# Altium schematic symbol library QFN40G.SchLib: 1 symbol
Pins are listed as number, name and electrical type; pins without a type are passive.

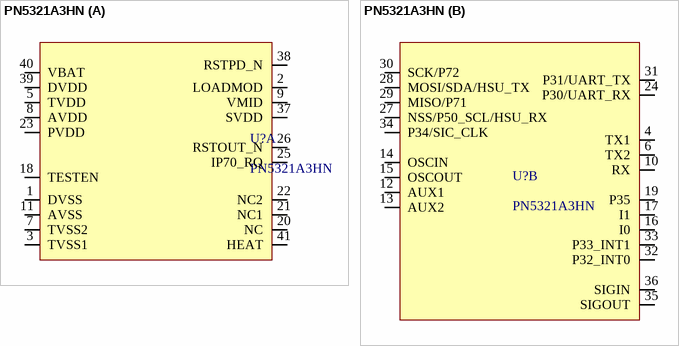
[diagram p0: symbol PN5321A3HN]

## PN5321A3HN
designator U?
RFID Reader/Transponder IC 13.56MHz FeliCa, ISO 14443, MIFARE, NFC IÂ²C, SPI, UART 2.7V ~ 5.5V 40-VFQFN Exposed Pad; MP: PN5321A3HN/C106;55; MF: NXP USA; Availability: Unavailable; SnapEDA_Link: https://www.snapeda.com/parts/PN5321A3HN/C106;55/NXP%20USA%20Inc./view-part/12288/?ref=snap; Price: None; Value: *; Package: HVQFN-40 NXP Semiconductors; Supplier 1: Digi-Key; Supplier Part Number 1: 568-8600-ND
footprint QFN40G-0.5-6X6MM
part A pins: 1 DVSS, 2 LOADMOD, 3 TVSS1, 5 TVDD, 7 TVSS2, 8 AVDD, 9 VMID, 11 AVSS, 18 TESTEN, 20 NC, 21 NC1, 22 NC2, 23 PVDD, 25 IP70_RQ, 26 RSTOUT_N, 37 SVDD, 38 RSTPD_N, 39 DVDD, 40 VBAT, 41 HEAT
part B pins: 4 TX1, 6 TX2, 10 RX, 12 AUX1, 13 AUX2, 14 OSCIN, 15 OSCOUT, 16 I0, 17 I1, 19 P35, 24 P30/UART_RX, 27 NSS/P50_SCL/HSU_RX, 28 MOSI/SDA/HSU_TX, 29 MISO/P71, 30 SCK/P72, 31 P31/UART_TX, 32 P32_INT0, 33 P33_INT1, 34 P34/SIC_CLK, 35 SIGOUT, 36 SIGIN